# Altium footprint library DIP.PcbLib: 12 footprints
Each footprint in its own frame and in the unit in brackets; x right, y up, seen from the top. Pads: shape width x height; smd on the part's side, far side on the other; paste and mask are expansions set on the pad; w line width, h text height; cw(c..) or ccw(c..) is an arc to the next point about the centre after c.
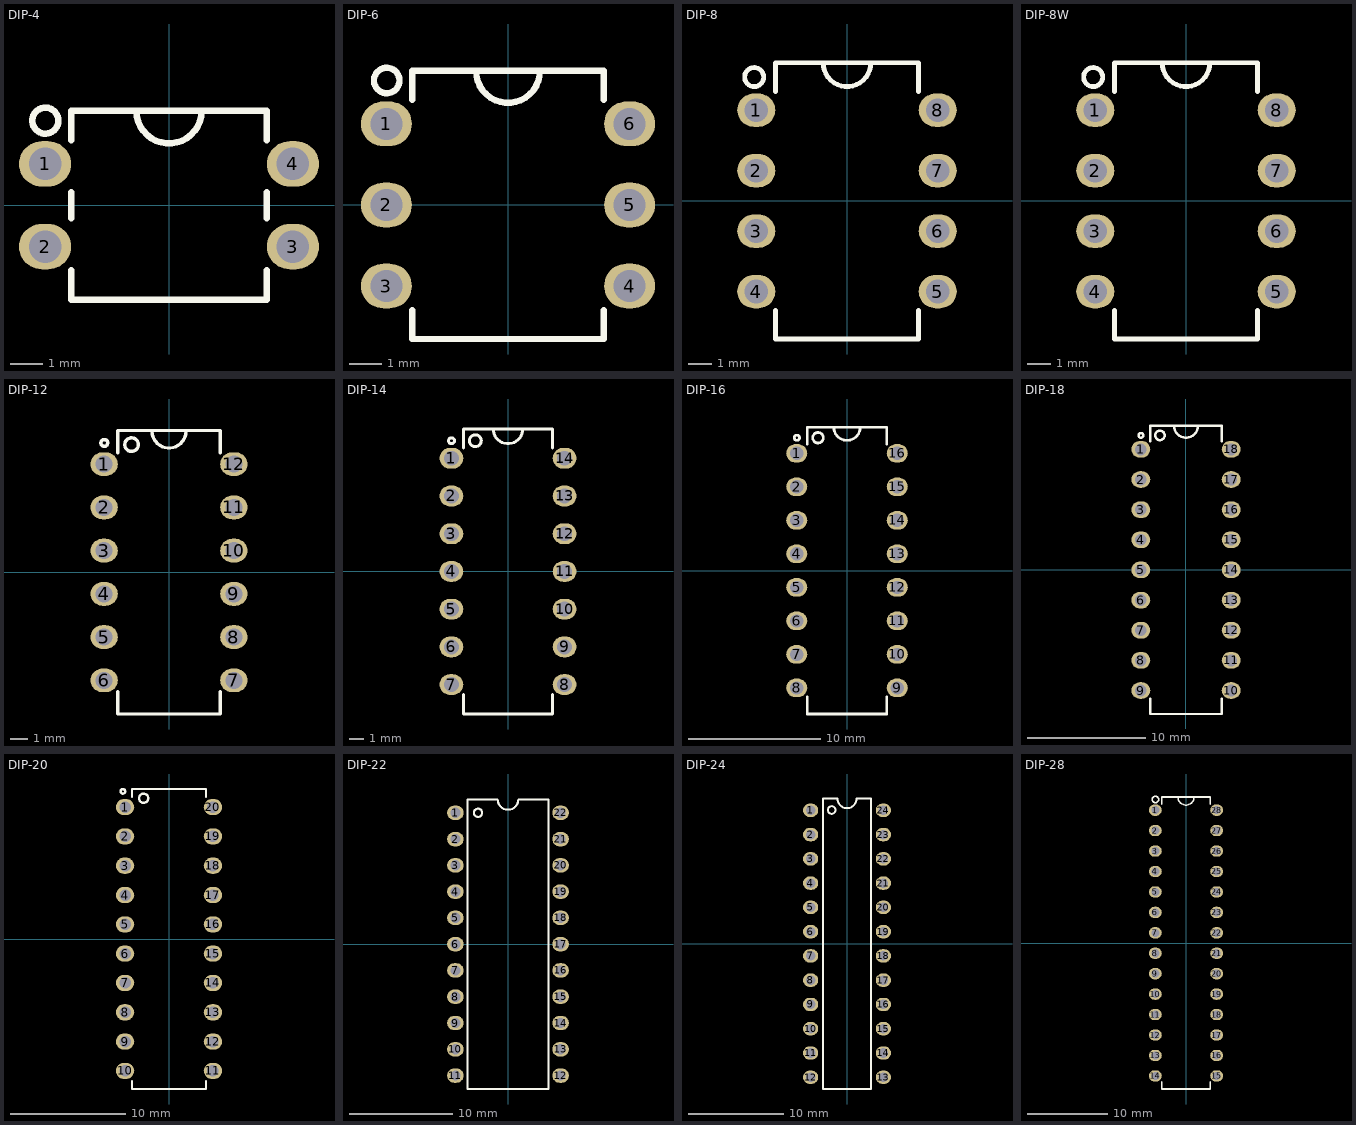
[diagram p0: the footprints below, top view; thin cyan lines are the x and y axes]

## DIP-4 [mm] "BRIDGE DIODE, DIP, pitch 2.54mm, 300mil Width"
pads (4):
  oval 1.6x1.4 hole 1: 1(-3.81,1.27) 2(-3.81,-1.27) 3(3.81,-1.27) 4(3.81,1.27)
Top Overlay:
  circle w0.2: c-3.8,2.6 r0.4
  lines w0.2: -3,-2 -3,-2.9 3,-2.9 3,-2 ; -3,-0.4 -3,0.4 ; -3,2 -3,2.9 3,2.9 3,2 ; -1,2.9 ccw(c0,2.9) 1,2.9 ; 3,-0.4 3,0.4
3D body "CircuitWorks-DIP4.step": height 4.31, standoff -3.28, extent -4,-2.77 4,2.77

## DIP-6 [mm] "DIP, pitch 2.54mm, 300mil Width"
pads (6):
  oval 1.6x1.4 hole 1: 1(-3.81,2.54) 2(-3.81,0) 3(-3.81,-2.54) 4(3.81,-2.54) 5(3.81,0) 6(3.81,2.54)
Top Overlay:
  circle w0.2: c-3.8,3.9 r0.4
  lines w0.2: -3,-3.3 -3,-4.2 3,-4.2 3,-3.3 ; -3,3.3 -3,4.2 3,4.2 3,3.3 ; -1,4.2 ccw(c0,4.2) 1,4.2
3D body "CircuitWorks-DIP6.step": height 4.31, standoff -3.28, extent -4,-4.04 4,4.04

## DIP-8 [mm] "DIP, pitch 2.54mm, 300mil Width"
pads (8):
  oval 1.6x1.4 hole 1: 1(-3.81,3.81) 2(-3.81,1.27) 3(-3.81,-1.27) 4(-3.81,-3.81) 5(3.81,-3.81) 6(3.81,-1.27) 7(3.81,1.27) 8(3.81,3.81)
Top Overlay:
  circle w0.2: c-3.9,5.2 r0.4
  lines w0.2: -3,-4.6 -3,-5.8 3,-5.8 3,-4.6 ; -3,4.6 -3,5.8 3,5.8 3,4.6 ; -1,5.8 ccw(c0,5.8) 1,5.8
3D body "CircuitWorks-DIP8.step": height 4.19, standoff -2.67, extent -3.937,-5.7 3.937,5.73

## DIP-8W [mm] "DIP, pitch 2.54mm, 300mil Width"
pads (8):
  oval 1.6x1.4 hole 1: 1(-3.81,3.81) 2(-3.81,1.27) 3(-3.81,-1.27) 4(-3.81,-3.81) 5(3.81,-3.81) 6(3.81,-1.27) 7(3.81,1.27) 8(3.81,3.81)
Top Overlay:
  circle w0.2: c-3.9,5.2 r0.4
  lines w0.2: -3,-4.6 -3,-5.8 3,-5.8 3,-4.6 ; -3,4.6 -3,5.8 3,5.8 3,4.6 ; -1,5.8 ccw(c0,5.8) 1,5.8
3D body "CircuitWorks-DIP8w.stp": height 4.05, standoff -2.81, extent -3.937,-5.715 3.937,5.715

## DIP-12 [mm] "DIP, pitch 2.54mm, 300mil Width"
pads (12):
  oval 1.6x1.4 hole 1: 1(-3.81,6.35) 2(-3.81,3.81) 3(-3.81,1.27) 4(-3.81,-1.27) 5(-3.81,-3.81) 6(-3.81,-6.35) 7(3.81,-6.35) 8(3.81,-3.81) 9(3.81,-1.27) 10(3.81,1.27) 11(3.81,3.81) 12(3.81,6.35)
Top Overlay:
  circle w0.2: c-3.8,7.6 r0.2
  circle w0.2: c-2.2,7.5 r0.4
  lines w0.2: -3,-7.03 -3,-8.33 3,-8.33 3,-7.03 ; -3,7.03 -3,8.33 3,8.33 3,7.03 ; -1,8.3 ccw(c0,8.3) 1,8.3

## DIP-14 [mm] "DIP, pitch 2.54mm, 300mil Width"
pads (14):
  oval 1.6x1.4 hole 1: 1(-3.81,7.62) 2(-3.81,5.08) 3(-3.81,2.54) 4(-3.81,0) 5(-3.81,-2.54) 6(-3.81,-5.08) 7(-3.81,-7.62) 8(3.81,-7.62) 9(3.81,-5.08) 10(3.81,-2.54) 11(3.81,0) 12(3.81,2.54) 13(3.81,5.08) 14(3.81,7.62)
Top Overlay:
  circle w0.2: c-3.8,8.8 r0.2
  circle w0.2: c-2.2,8.8 r0.4
  lines w0.2: -3,-8.3 -3,-9.6 3,-9.6 3,-8.3 ; -3,8.3 -3,9.6 3,9.6 3,8.3 ; -1,9.6 ccw(c0,9.6) 1,9.6
3D body "CircuitWorks-DIP-14.step": height 3.81, standoff -3.17, extent -4,-9.525 4,9.525

## DIP-16 [mm] "DIP, pitch 2.54mm, 300mil Width"
pads (16):
  oval 1.6x1.4 hole 1: 1(-3.81,8.89) 2(-3.81,6.35) 3(-3.81,3.81) 4(-3.81,1.27) 5(-3.81,-1.27) 6(-3.81,-3.81) 7(-3.81,-6.35) 8(-3.81,-8.89) 9(3.81,-8.89) 10(3.81,-6.35) 11(3.81,-3.81) 12(3.81,-1.27) 13(3.81,1.27) 14(3.81,3.81) 15(3.81,6.35) 16(3.81,8.89)
Top Overlay:
  circle w0.2: c-3.8,10.07 r0.2
  circle w0.2: c-2.2,10.07 r0.4
  lines w0.2: -3,-9.57 -3,-10.87 3,-10.87 3,-9.57 ; -3,9.57 -3,10.87 3,10.87 3,9.57 ; -1,10.87 ccw(c0,10.87) 1,10.87
3D body "CircuitWorks-DIP 16 IC.step": height 5.1, standoff -3.3, extent -3.935,-10 3.935,10

## DIP-18 [mm] "DIP, pitch 2.54mm, 300mil Width"
pads (18):
  oval 1.6x1.4 hole 1: 1(-3.81,10.16) 2(-3.81,7.62) 3(-3.81,5.08) 4(-3.81,2.54) 5(-3.81,0) 6(-3.81,-2.54) 7(-3.81,-5.08) 8(-3.81,-7.62) 9(-3.81,-10.16) 10(3.81,-10.16) 11(3.81,-7.62) 12(3.81,-5.08) 13(3.81,-2.54) 14(3.81,0) 15(3.81,2.54) 16(3.81,5.08) 17(3.81,7.62) 18(3.81,10.16)
Top Overlay:
  circle w0.2: c-3.8,11.34 r0.2
  circle w0.2: c-2.2,11.34 r0.4
  lines w0.2: -3,-10.84 -3,-12.14 3,-12.14 3,-10.84 ; -3,10.84 -3,12.14 3,12.14 3,10.84 ; -1,12.14 ccw(c0,12.14) 1,12.14
3D body "User Library-DIP18-300.step": height 5.08, standoff -2.49, extent -3.935,-11.495 3.935,11.495

## DIP-20 [mm] "DIP, pitch 2.54mm, 300mil Width"
pads (20):
  oval 1.6x1.4 hole 1: 1(-3.81,11.43) 2(-3.81,8.89) 3(-3.81,6.35) 4(-3.81,3.81) 5(-3.81,1.27) 6(-3.81,-1.27) 7(-3.81,-3.81) 8(-3.81,-6.35) 9(-3.81,-8.89) 10(-3.81,-11.43) 11(3.81,-11.43) 12(3.81,-8.89) 13(3.81,-6.35) 14(3.81,-3.81) 15(3.81,-1.27) 16(3.81,1.27) 17(3.81,3.81) 18(3.81,6.35) 19(3.81,8.89) 20(3.81,11.43)
Top Overlay:
  circle w0.2: c-4,12.8 r0.2
  circle w0.2: c-2.2,12.2 r0.4
  lines w0.2: -3.2,-12.3 -3.2,-13 3.2,-13 3.2,-12.3 ; -3.2,12.3 -3.2,13 3.2,13 3.2,12.3
3D body "User Library-20 pin dip.step": height 5.05, standoff -1.17, extent -3.937,-12.89 3.937,12.891

## DIP-22 [mm] "DIP, pitch 2.54mm, 400mil Width, 28X10mm"
pads (22):
  oval 1.6x1.4 hole 1: 1(-5.08,12.7) 2(-5.08,10.16) 3(-5.08,7.62) 4(-5.08,5.08) 5(-5.08,2.54) 6(-5.08,0) 7(-5.08,-2.54) 8(-5.08,-5.08) 9(-5.08,-7.62) 10(-5.08,-10.16) 11(-5.08,-12.7) 12(5.08,-12.7) 13(5.08,-10.16) 14(5.08,-7.62) 15(5.08,-5.08) 16(5.08,-2.54) 17(5.08,0) 18(5.08,2.54) 19(5.08,5.08) 20(5.08,7.62) 21(5.08,10.16) 22(5.08,12.7)
Top Overlay:
  circle w0.2: c-2.9,12.7 r0.4
  lines w0.2: -3.9,-14 3.9,-14 3.9,14 1,14 cw(c0,14) -1,14 -3.9,14 -3.9,-14

## DIP-24 [mm] "DIP, pitch 2.54mm, 300mil Width"
pads (24):
  oval 1.6x1.4 hole 1: 1(-3.81,13.97) 2(-3.81,11.43) 3(-3.81,8.89) 4(-3.81,6.35) 5(-3.81,3.81) 6(-3.81,1.27) 7(-3.81,-1.27) 8(-3.81,-3.81) 9(-3.81,-6.35) 10(-3.81,-8.89) 11(-3.81,-11.43) 12(-3.81,-13.97) 13(3.81,-13.97) 14(3.81,-11.43) 15(3.81,-8.89) 16(3.81,-6.35) 17(3.81,-3.81) 18(3.81,-1.27) 19(3.81,1.27) 20(3.81,3.81) 21(3.81,6.35) 22(3.81,8.89) 23(3.81,11.43) 24(3.81,13.97)
Top Overlay:
  circle w0.2: c-1.6,14 r0.4
  lines w0.2: -2.5,-15.2 -2.5,15.2 -1,15.2 ccw(c0,15.2) 1,15.2 2.5,15.2 2.5,-15.2 -2.5,-15.2

## DIP-28 [mm] "DIP, pitch 2.54mm, 300mil Width"
pads (28):
  oval 1.6x1.4 hole 1: 1(-3.81,16.51) 2(-3.81,13.97) 3(-3.81,11.43) 4(-3.81,8.89) 5(-3.81,6.35) 6(-3.81,3.81) 7(-3.81,1.27) 8(-3.81,-1.27) 9(-3.81,-3.81) 10(-3.81,-6.35) 11(-3.81,-8.89) 12(-3.81,-11.43) 13(-3.81,-13.97) 14(-3.81,-16.51) 15(3.81,-16.51) 16(3.81,-13.97) 17(3.81,-11.43) 18(3.81,-8.89) 19(3.81,-6.35) 20(3.81,-3.81) 21(3.81,-1.27) 22(3.81,1.27) 23(3.81,3.81) 24(3.81,6.35) 25(3.81,8.89) 26(3.81,11.43) 27(3.81,13.97) 28(3.81,16.51)
Top Overlay:
  circle w0.2: c-3.8,17.84 r0.4
  lines w0.2: -3,-17.24 -3,-18.14 3,-18.14 3,-17.24 ; -3,17.24 -3,18.14 3,18.14 3,17.24 ; -1,18.14 ccw(c0,18.14) 1,18.14
3D body "User Library-DIP28-300.step": height 5.08, standoff -2.49, extent -3.935,-18 3.935,18